# Altium footprint library SparkFun-Connectors.PCBLIB: 386 footprints (part 12 of 25)
Each footprint in its own frame and in the unit in brackets; x right, y up, seen from the top. Pads: shape width x height; smd on the part's side, far side on the other; paste and mask are expansions set on the pad; w line width, h text height; cw(c..) or ccw(c..) is an arc to the next point about the centre after c.
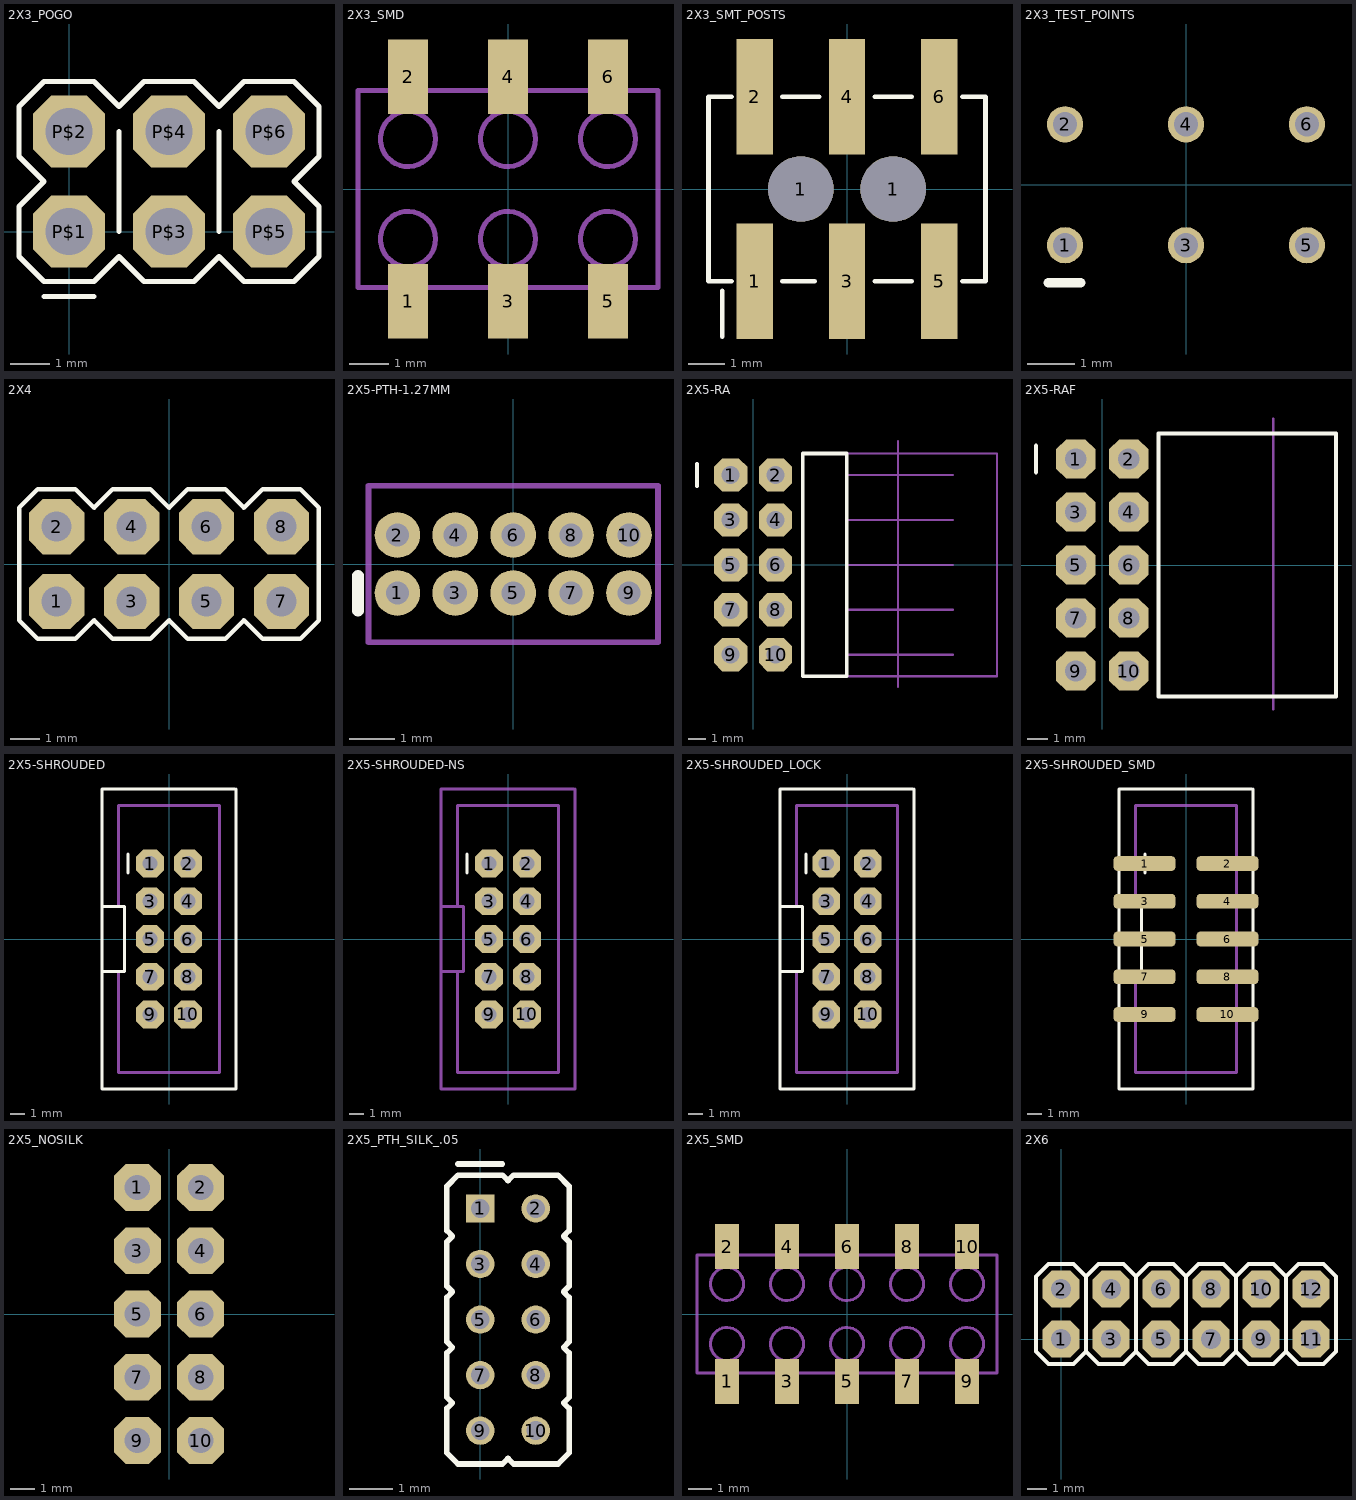
[diagram p11: the footprints below, top view; thin cyan lines are the x and y axes]

## 2X3_POGO [mil]
pads (6):
  oct 72x72 hole 47.24: P$1(0,0) P$2(0,100) P$3(100,0) P$4(100,100) P$5(200,0) P$6(200,100)
Top Overlay:
  lines w5: -25,-65 25,-65 ; 50,0 50,100 ; 150,0 150,100 ; -50,-25 -25,-50 25,-50 50,-25 75,-50 125,-50 150,-25 175,-50 225,-50 250,-25 250,25 225,50 250,75 250,125 225,150 175,150 150,125 125,150 75,150 50,125 25,150 -25,150 -50,125 -50,75 -25,50 -50,25 -50,-25

## 2X3_SMD [mil]
pads (6):
  rect 40.16x74.8 smd: 1(-100,-112.2) 2(-100,112.2) 3(0,-112.2) 4(0,112.2) 5(100,-112.2) 6(100,112.2)
Mechanical 16:
  circle w5: c0,50 r27.56
  circle w5: c-100,50 r27.56
  circle w5: c-100,-50 r27.56
  circle w5: c0,-50 r27.56
  circle w5: c100,-50 r27.56
  circle w5: c100,50 r27.56
  rectangle: -11.81,100.39 11.81,131.89
  rectangle: -111.81,100.39 -88.19,131.89
  rectangle: 88.19,100.39 111.81,131.89
  region: -88.19,-100.39 -111.81,-100.39 -111.81,-131.89 -88.19,-131.89
  region: 11.81,-100.39 -11.81,-100.39 -11.81,-131.89 11.81,-131.89
  region: 111.81,-100.39 88.19,-100.39 88.19,-131.89 111.81,-131.89
  lines w5: -150,-98.43 -150,98.43 150,98.43 150,-98.43 -150,-98.43

## 2X3_SMT_POSTS [mm]
pads (8):
  rect 1x3.17 smd: 1(-2.54,-2.54) 2(-2.54,2.54) 3(0,-2.54) 4(0,2.54) 5(2.54,-2.54) 6(2.54,2.54)
  round 1.8 hole 1.8: 1(-1.27,0) 1(1.27,0)
Top Overlay:
  lines w0.127: -3.429,-4.064 -3.429,-2.794 ; -3.175,-2.54 -3.81,-2.54 -3.81,2.54 -3.175,2.54 ; -1.778,-2.54 -0.889,-2.54 ; -1.778,2.54 -0.762,2.54 ; 0.762,-2.54 1.778,-2.54 ; 0.762,2.54 1.778,2.54 ; 3.175,-2.54 3.81,-2.54 3.81,2.54 3.175,2.54

## 2X3_TEST_POINTS [mil]
pads (6):
  round 30 hole 20: 1(-100,-50) 2(-100,50) 3(0,-50) 4(0,50) 5(100,-50) 6(100,50)
Top Overlay:
  lines w8: -114,-81 -87,-81
Top Solder:
  circle w0: c-100,50 r24.04
  circle w0: c0,50 r24.04
  circle w0: c100,50 r24.04
  circle w0: c-100,-50 r24.04
  circle w0: c0,-50 r24.04
  circle w0: c100,-50 r24.04

## 2X4 [mil]
pads (8):
  oct 74x74 hole 40: 1(-150,-50) 2(-150,50) 3(-50,-50) 4(-50,50) 5(50,-50) 6(50,50) 7(150,-50) 8(150,50)
Top Overlay:
  lines w6: -200,-75 -175,-100 -125,-100 -100,-75 -75,-100 -25,-100 0,-75 25,-100 75,-100 100,-75 125,-100 175,-100 200,-75 200,75 175,100 125,100 100,75 75,100 25,100 0,75 -25,100 -75,100 -100,75 -125,100 -175,100 -200,75 -200,-75
Mechanical 16:
  rectangle: -160,-60 -140,-40
  rectangle: -160,40 -140,60
  rectangle: -60,40 -40,60
  rectangle: -60,-60 -40,-40
  rectangle: 40,40 60,60
  rectangle: 40,-60 60,-40
  rectangle: 140,40 160,60
  rectangle: 140,-60 160,-40

## 2X5-PTH-1.27MM [mm]
pads (10):
  round 1 hole 0.508: 1(-2.54,-0.635) 2(-2.54,0.635) 3(-1.27,-0.635) 4(-1.27,0.635) 5(0,-0.635) 6(0,0.635) 7(1.27,-0.635) 8(1.27,0.635) 9(2.54,-0.635) 10(2.54,0.635)
Top Overlay:
  lines w0.254: -3.403,-1.021 -3.403,-0.259
Mechanical 16:
  lines w0.127: -3.175,-1.715 -3.175,1.715 3.175,1.715 3.175,-1.715 -3.175,-1.715

## 2X5-RA [mil]
pads (10):
  oct 74x74 hole 40: 1(-50,200) 2(50,200) 3(-50,100) 4(50,100) 5(-50,0) 6(50,0) 7(-50,-100) 8(50,-100) 9(-50,-200) 10(50,-200)
Top Overlay:
  lines w8: -125,175 -125,225 ; 110.24,-248.03 208.66,-248.03 208.66,248.03 110.24,248.03 110.24,-248.03
Mechanical 16:
  region: -60,210 -60,190 -40,190 -40,210
  region: 40,210 40,190 60,190 60,210
  region: 40,110 40,90 60,90 60,110
  region: -60,110 -60,90 -40,90 -40,110
  region: 40,10 40,-10 60,-10 60,10
  region: -60,10 -60,-10 -40,-10 -40,10
  region: 40,-90 40,-110 60,-110 60,-90
  region: -60,-90 -60,-110 -40,-110 -40,-90
  region: 40,-190 40,-210 60,-210 60,-190
  region: -60,-190 -60,-210 -40,-210 -40,-190
  region: -60,-90 -60,-110 -40,-110 -40,-90
  region: 40,-90 40,-110 60,-110 60,-90
  lines w5: 208.66,-248.03 543.31,-248.03 543.31,248.03 208.66,248.03 ; 208.66,-200 444.88,-200 ; 208.66,-100 444.88,-100 ; 208.66,0 444.88,0 ; 208.66,100 444.88,100 ; 208.66,200 444.88,200 ; 322.83,-271.65 322.83,275.59

## 2X5-RAF [mil]
pads (10):
  oct 74x74 hole 40: 1(-50,200) 2(50,200) 3(-50,100) 4(50,100) 5(-50,0) 6(50,0) 7(-50,-100) 8(50,-100) 9(-50,-200) 10(50,-200)
Top Overlay:
  lines w8: -125,175 -125,225 ; 106.3,-248.03 440.94,-248.03 440.94,248.03 106.3,248.03 106.3,-248.03
Mechanical 16:
  region: -60,210 -60,190 -40,190 -40,210
  region: 40,210 40,190 60,190 60,210
  region: 40,110 40,90 60,90 60,110
  region: -60,110 -60,90 -40,90 -40,110
  region: 40,10 40,-10 60,-10 60,10
  region: -60,10 -60,-10 -40,-10 -40,10
  region: 40,-90 40,-110 60,-110 60,-90
  region: -60,-90 -60,-110 -40,-110 -40,-90
  region: 40,-190 40,-210 60,-210 60,-190
  region: -60,-190 -60,-210 -40,-210 -40,-190
  region: -60,-90 -60,-110 -40,-110 -40,-90
  region: 40,-90 40,-110 60,-110 60,-90
  lines w5: 322.83,-271.65 322.83,275.59

## 2X5-SHROUDED [mil]
pads (10):
  oct 74x74 hole 40: 1(-50,200) 2(50,200) 3(-50,100) 4(50,100) 5(-50,0) 6(50,0) 7(-50,-100) 8(50,-100) 9(-50,-200) 10(50,-200)
Top Overlay:
  lines w8: -109.25,175 -109.25,225 ; 173.23,397.64 -177.17,397.64 -177.17,86.61 ; 177.17,397.64 177.17,-397.64 -177.17,-397.64 -177.17,-86.61 ; -177.17,-86.61 -177.17,86.61 ; -177.17,-86.61 -118.11,-86.61 -118.11,86.61 -177.17,86.61
Mechanical 16:
  rectangle: -60,190 -40,210
  rectangle: 40,190 60,210
  rectangle: 40,90 60,110
  rectangle: -60,90 -40,110
  rectangle: 40,-10 60,10
  rectangle: -60,-10 -40,10
  rectangle: 40,-110 60,-90
  rectangle: -60,-110 -40,-90
  rectangle: 40,-210 60,-190
  rectangle: -60,-210 -40,-190
  rectangle: -60,-110 -40,-90
  rectangle: 40,-110 60,-90
  lines w8: -133.86,-86.61 -133.86,-354.33 133.86,-354.33 133.86,354.33 -133.86,354.33 -133.86,86.61

## 2X5-SHROUDED-NS [mil]
pads (10):
  oct 74x74 hole 40: 1(-50,200) 2(50,200) 3(-50,100) 4(50,100) 5(-50,0) 6(50,0) 7(-50,-100) 8(50,-100) 9(-50,-200) 10(50,-200)
Top Overlay:
  lines w8: -109.25,175 -109.25,225
Mechanical 16:
  rectangle: -60,190 -40,210
  rectangle: 40,190 60,210
  rectangle: 40,90 60,110
  rectangle: -60,90 -40,110
  rectangle: 40,-10 60,10
  rectangle: -60,-10 -40,10
  rectangle: 40,-110 60,-90
  rectangle: -60,-110 -40,-90
  rectangle: 40,-210 60,-190
  rectangle: -60,-210 -40,-190
  rectangle: -60,-110 -40,-90
  rectangle: 40,-110 60,-90
  lines w8: -133.86,-86.61 -133.86,-354.33 133.86,-354.33 133.86,354.33 -133.86,354.33 -133.86,86.61 ; 173.23,397.64 -177.17,397.64 -177.17,86.61 ; 177.17,397.64 177.17,-397.64 -177.17,-397.64 -177.17,-86.61 ; -177.17,-86.61 -177.17,86.61 ; -177.17,-86.61 -118.11,-86.61 -118.11,86.61 -177.17,86.61

## 2X5-SHROUDED_LOCK [mil]
pads (10):
  oct 74x74 hole 40: 1(-55,200) 2(55,200) 3(-55,100) 4(55,100) 5(-55,0) 6(55,0) 7(-55,-100) 8(55,-100) 9(-55,-200) 10(55,-200)
Top Overlay:
  lines w8: -109.25,175 -109.25,225 ; 173.23,397.64 -177.17,397.64 -177.17,86.61 ; 177.17,397.64 177.17,-397.64 -177.17,-397.64 -177.17,-86.61 ; -177.17,-86.61 -177.17,86.61 ; -177.17,-86.61 -118.11,-86.61 -118.11,86.61 -177.17,86.61
Mechanical 16:
  region: -60,210 -60,190 -40,190 -40,210
  region: 40,210 40,190 60,190 60,210
  region: 40,110 40,90 60,90 60,110
  region: -60,110 -60,90 -40,90 -40,110
  region: 40,10 40,-10 60,-10 60,10
  region: -60,10 -60,-10 -40,-10 -40,10
  region: 40,-90 40,-110 60,-110 60,-90
  region: -60,-90 -60,-110 -40,-110 -40,-90
  region: 40,-190 40,-210 60,-210 60,-190
  region: -60,-190 -60,-210 -40,-210 -40,-190
  region: -60,-90 -60,-110 -40,-110 -40,-90
  region: 40,-90 40,-110 60,-110 60,-90
  lines w8: -133.86,-86.61 -133.86,-354.33 133.86,-354.33 133.86,354.33 -133.86,354.33 -133.86,86.61

## 2X5-SHROUDED_SMD [mil]
pads (10):
  rrect50% 163.39x39.37 smd: 1(-110,200) 2(110,200) 3(-110,100) 4(110,100) 5(-110,0) 6(110,0) 7(-110,-100) 8(110,-100) 9(-110,-200) 10(110,-200)
Top Overlay:
  lines w8: -109.25,175 -109.25,225 ; 173.23,397.64 -177.17,397.64 -177.17,86.61 ; 177.17,397.64 177.17,-397.64 -177.17,-397.64 -177.17,-86.61 ; -177.17,-86.61 -177.17,86.61 ; -177.17,-86.61 -118.11,-86.61 -118.11,86.61 -177.17,86.61
Mechanical 16:
  rectangle: -60,190 -40,210
  rectangle: 40,190 60,210
  rectangle: 40,90 60,110
  rectangle: -60,90 -40,110
  rectangle: 40,-10 60,10
  rectangle: -60,-10 -40,10
  rectangle: 40,-110 60,-90
  rectangle: -60,-110 -40,-90
  rectangle: 40,-210 60,-190
  rectangle: -60,-210 -40,-190
  rectangle: -60,-110 -40,-90
  rectangle: 40,-110 60,-90
  lines w8: -133.86,-86.61 -133.86,-354.33 133.86,-354.33 133.86,354.33 -133.86,354.33 -133.86,86.61

## 2X5_NOSILK [mil]
pads (10):
  oct 74x74 hole 40: 1(-50,200) 2(50,200) 3(-50,100) 4(50,100) 5(-50,0) 6(50,0) 7(-50,-100) 8(50,-100) 9(-50,-200) 10(50,-200)
Mechanical 16:
  rectangle: -60,190 -40,210
  rectangle: 40,190 60,210
  rectangle: 40,90 60,110
  rectangle: -60,90 -40,110
  rectangle: -60,-10 -40,10
  rectangle: 40,-210 60,-190
  rectangle: -60,-210 -40,-190
  rectangle: -60,-110 -40,-90
  rectangle: 40,-110 60,-90
  rectangle: 40,-10 60,10

## 2X5_PTH_SILK_.05 [mil]
pads (10):
  rect 25.5x25.5 hole 17: 1(0,250)
  round 25.5 hole 17: 2(50,250) 3(0,200) 4(50,200) 5(0,150) 6(50,150) 7(0,100) 8(50,100) 9(0,50) 10(50,50)
Top Overlay:
  lines w5: -20,290 20,290 ; -30,30 -20,20 20,20 25,25 30,20 70,20 80,30 80,70 75,75 80,80 80,120 75,125 80,130 80,170 75,175 80,180 80,220 75,225 80,230 80,270 70,280 30,280 25,275 20,280 -20,280 -30,270 -30,230 -25,225 -30,220 -30,180 -25,175 -30,170 -30,130 -25,125 -30,120 -30,80 -25,75 -30,70 -30,30

## 2X5_SMD [mil]
pads (10):
  rect 40.16x74.8 smd: 1(-200,-112.2) 2(-200,112.2) 3(-100,-112.2) 4(-100,112.2) 5(0,-112.2) 6(0,112.2) 7(100,-112.2) 8(100,112.2) 9(200,-112.2) 10(200,112.2)
Mechanical 16:
  circle w5: c-100,50 r27.56
  circle w5: c-200,50 r27.56
  circle w5: c-200,-50 r27.56
  circle w5: c-100,-50 r27.56
  circle w5: c0,-50 r27.56
  circle w5: c0,50 r27.56
  circle w5: c100,-50 r27.56
  circle w5: c100,50 r27.56
  circle w5: c200,-50 r27.56
  circle w5: c200,50 r27.56
  rectangle: -111.81,100.39 -88.19,131.89
  rectangle: -211.81,100.39 -188.19,131.89
  rectangle: -11.81,100.39 11.81,131.89
  region: -188.19,-100.39 -211.81,-100.39 -211.81,-131.89 -188.19,-131.89
  region: -88.19,-100.39 -111.81,-100.39 -111.81,-131.89 -88.19,-131.89
  region: 11.81,-100.39 -11.81,-100.39 -11.81,-131.89 11.81,-131.89
  rectangle: 88.19,100.39 111.81,131.89
  region: 111.81,-100.39 88.19,-100.39 88.19,-131.89 111.81,-131.89
  rectangle: 188.19,100.39 211.81,131.89
  region: 211.81,-100.39 188.19,-100.39 188.19,-131.89 211.81,-131.89
  lines w5: -250,-98.43 -250,98.43 250,98.43 250,-98.43 -250,-98.43

## 2X6 [mil]
pads (12):
  oct 74x74 hole 40: 1(0,0) 2(0,100) 3(100,0) 4(100,100) 5(200,0) 6(200,100) 7(300,0) 8(300,100) 9(400,0) 10(400,100) 11(500,0) 12(500,100)
Top Overlay:
  lines w8: 50,-25 25,-50 -25,-50 -50,-25 -50,125 -25,150 25,150 50,125 ; 50,-25 75,-50 125,-50 150,-25 ; 50,-25 50,125 ; 50,125 75,150 125,150 150,125 ; 150,-25 175,-50 225,-50 250,-25 ; 150,-25 150,125 ; 150,125 175,150 225,150 250,125 ; 250,-25 275,-50 325,-50 350,-25 ; 250,-25 250,125 ; 250,125 275,150 325,150 350,125 ; 350,-25 375,-50 425,-50 450,-25 ; 350,-25 350,125 ; 350,125 375,150 425,150 450,125 ; 450,-25 475,-50 525,-50 550,-25 550,125 525,150 475,150 450,125 ; 450,-25 450,125
Mechanical 16:
  rectangle: -10,-10 10,10
  rectangle: -10,90 10,110
  rectangle: 90,90 110,110
  rectangle: 90,-10 110,10
  rectangle: 190,90 210,110
  rectangle: 190,-10 210,10
  rectangle: 290,90 310,110
  rectangle: 390,90 410,110
  rectangle: 490,90 510,110
  rectangle: 290,-10 310,10
  rectangle: 390,-10 410,10
  rectangle: 490,-10 510,10